# Altium schematic symbol library CM322522-180KL.SchLib: 1 symbol
Pins are listed as number, name and electrical type; pins without a type are passive.

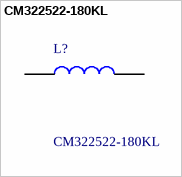
[diagram p0: symbol CM322522-180KL]

## CM322522-180KL
designator L?
Power Inductors - SMD 18uH 10% Wirewound; Manufacturer_Name: Bourns; Geometry.Height: 2.4mm; Mouser Part Number: 652-CM322522-180KL; Mouser Price/Stock: https://www.mouser.co.uk/ProductDetail/Bourns/CM322522-180KL?qs=jraqILX6wiSvRdOCrzjQ4g%3D%3D; Manufacturer_Part_Number: CM322522-180KL; Datasheet Link: https://www.bourns.com/docs/Product-Datasheets/cm322522.pdf
footprint INDM3225X240N
pins: 1, 2